# EAGLE library part MAX17501F (library dawidkulpa_dev)
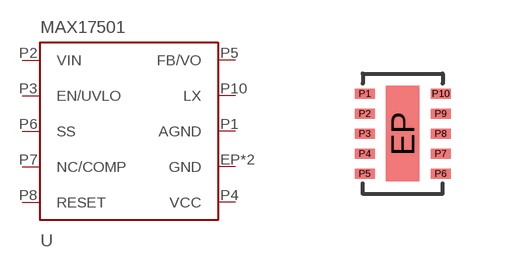
[diagram p27: symbol with the pads of TDFN-10; footprint TDFN-10]

Designator prefix -

## MAX17501F  [TDFN-10]
EP  GND
P1  AGND
P2  VIN
P3  EN/UVLO
P4  VCC
P5  FB/VO
P6  SS
P7  NC/COMP
P8  RESET
P9  GND
P10  LX

## Footprint TDFN-10 (pad centres in mm)
smd 0.84 x 2.39: EP 0,0
smd 0.5 x 0.25: P1 -0.95,1; P2 -0.95,0.5; P3 -0.95,0; P4 -0.95,-0.5; P5 -0.95,-1; P6 0.95,-1; P7 0.95,-0.5; P8 0.95,0; P9 0.95,0.5; P10 0.95,1